# Altium schematic symbol library TCA9406DCUR.SchLib: 1 symbol
Pins are listed as number, name and electrical type; pins without a type are passive.

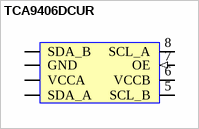
[diagram p0: symbol TCA9406DCUR]

## TCA9406DCUR
designator U?  (value not drawn)
2-Bit Bidirectional I2C Voltage-Level Translator, VSSOP-8; Manufacturer: Texas Instruments; VCCA: 1.65V to 3.6V; VCCB: 2.3V to 5.5V; MPN: TCA9406DCUR; Package: VSSOP-8
footprint TSSOP50P300X110-8N (TSSOP, 8-Leads, Body 3.00x2.10mm, Pitch 0.50mm, IPC Medium Density)
pins: 1 SDA_B (io), 2 GND (power), 3 VCCA (power), 4 SDA_A (io), 5 SCL_B (io), 6 VCCB (power), 7 OE (in), 8 SCL_A (io)